# Altium schematic symbol library RJ_45-8P8C.SchLib: 3 symbols
Pins are listed as number, name and electrical type; pins without a type are passive.

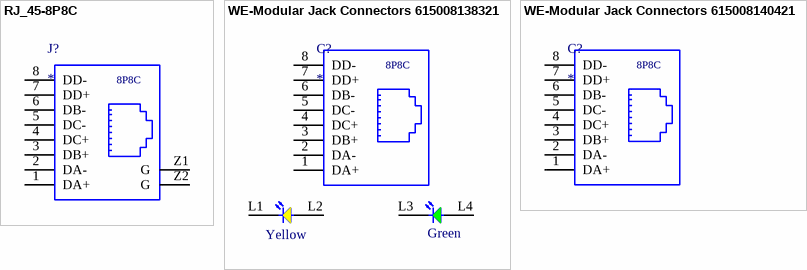
[diagram p0: symbols RJ_45-8P8C to WE-Modular Jack Connectors 615008140421]

## RJ_45-8P8C
designator J?
pins: 1 DA+, 2 DA-, 3 DB+, 4 DC+, 5 DC-, 6 DB-, 7 DD+, 8 DD-, Z1 G (power), Z2 G (power)
text: 8P8C

## WE-Modular Jack Connectors 615008138321
designator C?
WR-COM Modular Jack RJ45 Vertical  Shielded  With LED - left yellow - right green; Manufacturer: Würth Elektronik eiSos GmbH; partNo: 615008138321; ComponentLink1 Description: Manufacturer; ComponentLink2 Description: Datasheet; NoPins: 12; ComponentLink1URL: http://www.we-online.de; ComponentLink2URL: http://katalog.we-online.de/em/datasheet/615008138321.pdf; Created by: Karrer Zheng; Created Date: 10/22/2014
footprint 615008138321
pins: 1 DA+, 2 DA-, 3 DB+, 4 DC+, 5 DC-, 6 DB-, 7 DD+, 8 DD-, L1, L2, L3, L4
text: 8P8C; Yellow; Green

## WE-Modular Jack Connectors 615008140421
designator C?
WR-COM Modular Jack Vertical Shielded 1x1 TH    8P8C; Manufacturer: Würth Elektronik eiSos GmbH; partNo: 615008140421; ComponentLink1 Description: Manufacturer; ComponentLink2 Description: Datasheet; NoPins: 8; ComponentLink1URL: http://www.we-online.de; ComponentLink2URL: http://katalog.we-online.de/em/datasheet/615008140421.pdf; Created by: Karrer Zheng; Created Date: 10/22/2014
footprint 615008140421
pins: 1 DA+, 2 DA-, 3 DB+, 4 DC+, 5 DC-, 6 DB-, 7 DD+, 8 DD-
text: 8P8C